# Altium schematic symbol library praline-cache.SchLib: 44 symbols
Pins are listed as number, name and electrical type; pins without a type are passive.

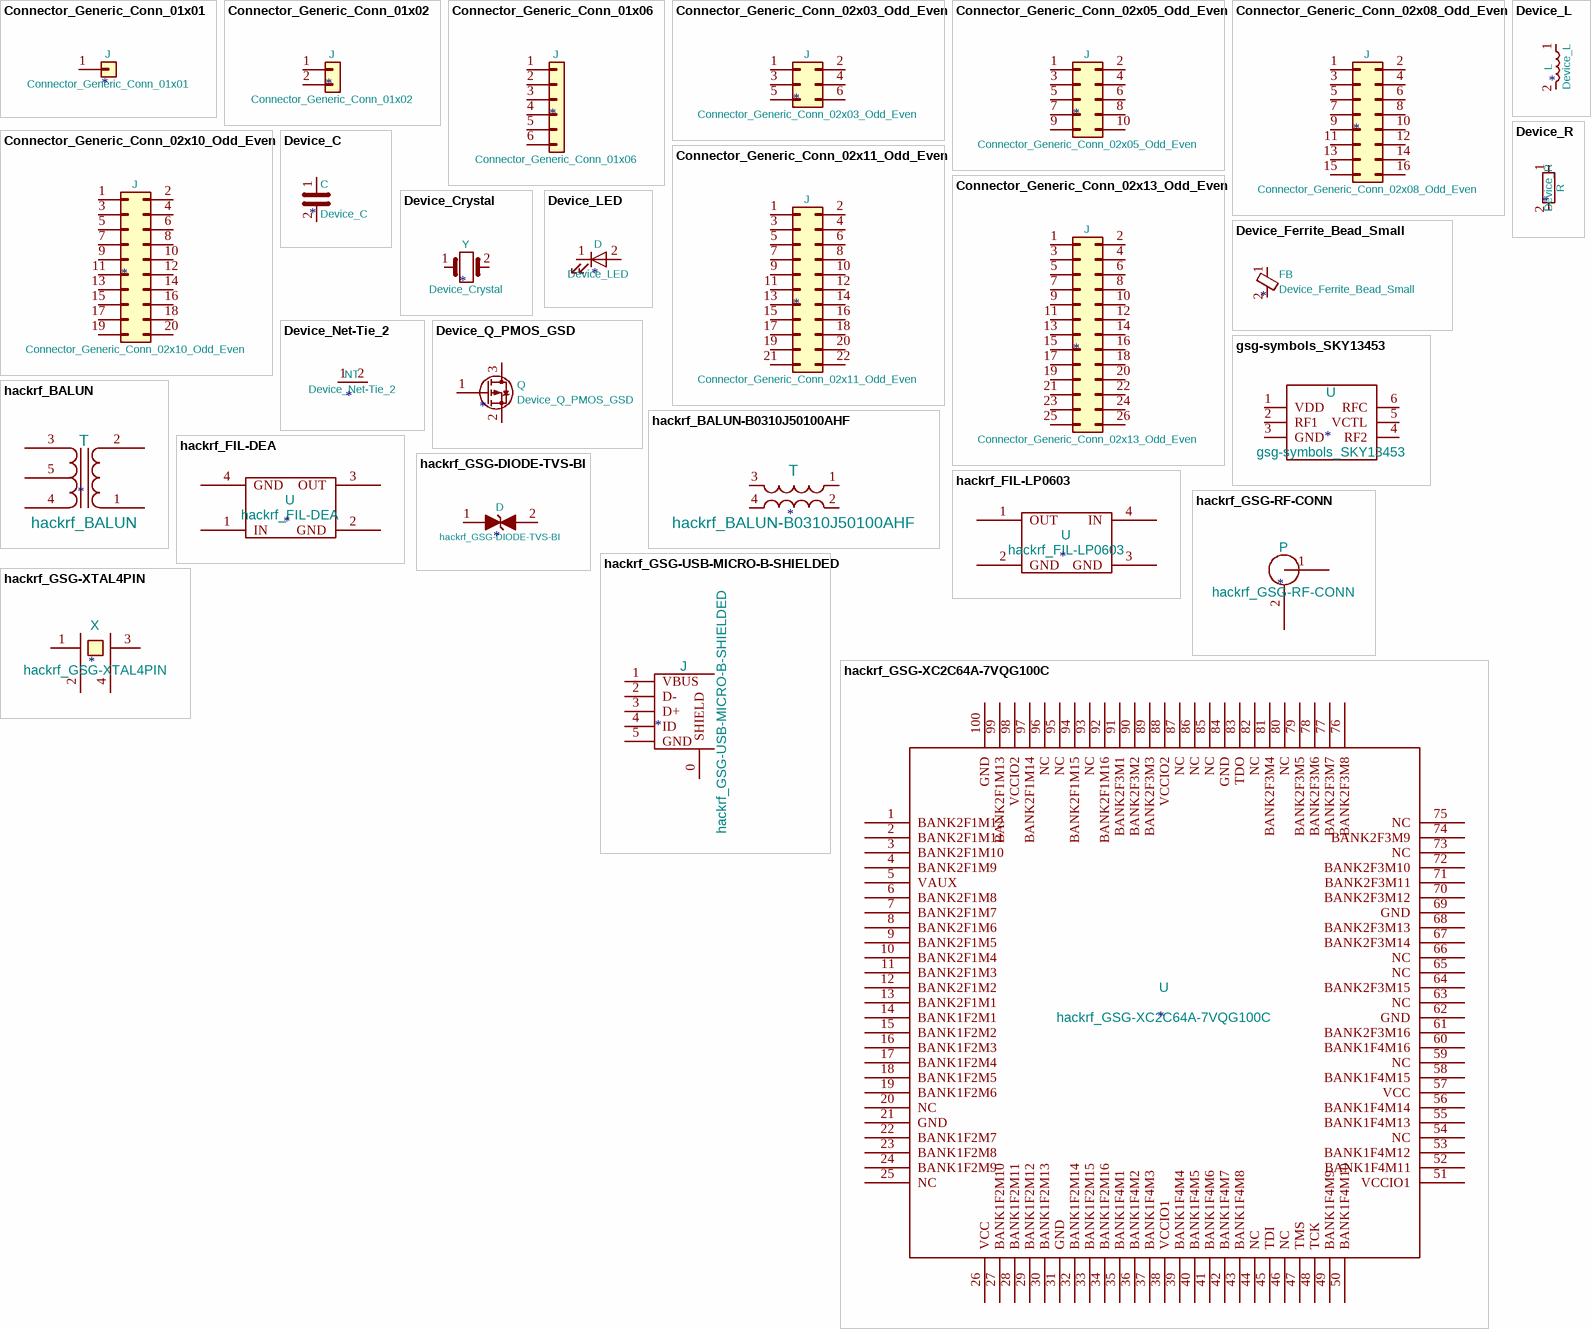
[diagram p0: symbols Connector_Generic_Conn_01x01 to hackrf_GSG-XTAL4PIN]

## Connector_Generic_Conn_01x01
designator J  value Connector_Generic_Conn_01x01
pins: 1 Pin_1

## Connector_Generic_Conn_01x02
designator J  value Connector_Generic_Conn_01x02
pins: 1 Pin_1, 2 Pin_2

## Connector_Generic_Conn_01x06
designator J  value Connector_Generic_Conn_01x06
pins: 1 Pin_1, 2 Pin_2, 3 Pin_3, 4 Pin_4, 5 Pin_5, 6 Pin_6

## Connector_Generic_Conn_02x03_Odd_Even
designator J  value Connector_Generic_Conn_02x03_Odd_Even
pins: 1 Pin_1, 2 Pin_2, 3 Pin_3, 4 Pin_4, 5 Pin_5, 6 Pin_6

## Connector_Generic_Conn_02x05_Odd_Even
designator J  value Connector_Generic_Conn_02x05_Odd_Even
pins: 1 Pin_1, 2 Pin_2, 3 Pin_3, 4 Pin_4, 5 Pin_5, 6 Pin_6, 7 Pin_7, 8 Pin_8, 9 Pin_9, 10 Pin_10

## Connector_Generic_Conn_02x08_Odd_Even
designator J  value Connector_Generic_Conn_02x08_Odd_Even
pins: 1 Pin_1, 2 Pin_2, 3 Pin_3, 4 Pin_4, 5 Pin_5, 6 Pin_6, 7 Pin_7, 8 Pin_8, 9 Pin_9, 10 Pin_10, 11 Pin_11, 12 Pin_12, 13 Pin_13, 14 Pin_14, 15 Pin_15, 16 Pin_16

## Connector_Generic_Conn_02x10_Odd_Even
designator J  value Connector_Generic_Conn_02x10_Odd_Even
pins: 1 Pin_1, 2 Pin_2, 3 Pin_3, 4 Pin_4, 5 Pin_5, 6 Pin_6, 7 Pin_7, 8 Pin_8, 9 Pin_9, 10 Pin_10, 11 Pin_11, 12 Pin_12, 13 Pin_13, 14 Pin_14, 15 Pin_15, 16 Pin_16, 17 Pin_17, 18 Pin_18, 19 Pin_19, 20 Pin_20

## Connector_Generic_Conn_02x11_Odd_Even
designator J  value Connector_Generic_Conn_02x11_Odd_Even
pins: 1 Pin_1, 2 Pin_2, 3 Pin_3, 4 Pin_4, 5 Pin_5, 6 Pin_6, 7 Pin_7, 8 Pin_8, 9 Pin_9, 10 Pin_10, 11 Pin_11, 12 Pin_12, 13 Pin_13, 14 Pin_14, 15 Pin_15, 16 Pin_16, 17 Pin_17, 18 Pin_18, 19 Pin_19, 20 Pin_20, 21 Pin_21, 22 Pin_22

## Connector_Generic_Conn_02x13_Odd_Even
designator J  value Connector_Generic_Conn_02x13_Odd_Even
pins: 1 Pin_1, 2 Pin_2, 3 Pin_3, 4 Pin_4, 5 Pin_5, 6 Pin_6, 7 Pin_7, 8 Pin_8, 9 Pin_9, 10 Pin_10, 11 Pin_11, 12 Pin_12, 13 Pin_13, 14 Pin_14, 15 Pin_15, 16 Pin_16, 17 Pin_17, 18 Pin_18, 19 Pin_19, 20 Pin_20, 21 Pin_21, 22 Pin_22, 23 Pin_23, 24 Pin_24, 25 Pin_25, 26 Pin_26

## Device_C
designator C  value Device_C
pins: 1, 2

## Device_Crystal
designator Y  value Device_Crystal
pins: 1, 2

## Device_Ferrite_Bead_Small
designator FB  value Device_Ferrite_Bead_Small
pins: 1, 2

## Device_L
designator L  value Device_L
pins: 1, 2

## Device_LED
designator D  value Device_LED
pins: 1 K, 2 A

## Device_Net-Tie_2
designator NT  value Device_Net-Tie_2
pins: 1, 2

## Device_Q_PMOS_GSD
designator Q  value Device_Q_PMOS_GSD
pins: 1 G, 2 S, 3 D

## Device_R
designator R  value Device_R
pins: 1, 2

## gsg-symbols_SKY13453
designator U  value gsg-symbols_SKY13453
pins: 1 VDD, 2 RF1, 3 GND, 4 RF2, 5 VCTL, 6 RFC

## hackrf_BALUN
designator T  value hackrf_BALUN
pins: 1 S1, 2 S2, 3 PR1, 4 PR2, 5 PM

## hackrf_BALUN-B0310J50100AHF
designator T  value hackrf_BALUN-B0310J50100AHF
pins: 1 S1, 2 S2, 3 PR1, 4 PR2

## hackrf_FIL-DEA
designator U  value hackrf_FIL-DEA
pins: 1 IN, 2 GND, 3 OUT, 4 GND

## hackrf_FIL-LP0603
designator U  value hackrf_FIL-LP0603
pins: 1 OUT, 2 GND, 3 GND, 4 IN

## hackrf_GSG-DIODE-TVS-BI
designator D  value hackrf_GSG-DIODE-TVS-BI
pins: 1 A, 2 K

## hackrf_GSG-RF-CONN
designator P  value hackrf_GSG-RF-CONN
pins: 1 RF, 2 GND

## hackrf_GSG-USB-MICRO-B-SHIELDED
designator J  value hackrf_GSG-USB-MICRO-B-SHIELDED
pins: 0 SHIELD, 1 VBUS, 2 D-, 3 D+, 4 ID, 5 GND

## hackrf_GSG-XC2C64A-7VQG100C
designator U  value hackrf_GSG-XC2C64A-7VQG100C
pins: 1 BANK2F1M12, 2 BANK2F1M11, 3 BANK2F1M10, 4 BANK2F1M9, 5 VAUX, 6 BANK2F1M8, 7 BANK2F1M7, 8 BANK2F1M6, 9 BANK2F1M5, 10 BANK2F1M4, 11 BANK2F1M3, 12 BANK2F1M2, 13 BANK2F1M1, 14 BANK1F2M1, 15 BANK1F2M2, 16 BANK1F2M3, 17 BANK1F2M4, 18 BANK1F2M5, 19 BANK1F2M6, 20 NC, 21 GND, 22 BANK1F2M7, 23 BANK1F2M8, 24 BANK1F2M9, 25 NC, 26 VCC, 27 BANK1F2M10, 28 BANK1F2M11, 29 BANK1F2M12, 30 BANK1F2M13, 31 GND, 32 BANK1F2M14, 33 BANK1F2M15, 34 BANK1F2M16, 35 BANK1F4M1, 36 BANK1F4M2, 37 BANK1F4M3, 38 VCCIO1, 39 BANK1F4M4, 40 BANK1F4M5, 41 BANK1F4M6, 42 BANK1F4M7, 43 BANK1F4M8, 44 NC, 45 TDI, 46 NC, 47 TMS, 48 TCK, 49 BANK1F4M9, 50 BANK1F4M10, 51 VCCIO1, 52 BANK1F4M11, 53 BANK1F4M12, 54 NC, 55 BANK1F4M13, 56 BANK1F4M14, 57 VCC, 58 BANK1F4M15, 59 NC, 60 BANK1F4M16, 61 BANK2F3M16, 62 GND, 63 NC, 64 BANK2F3M15, 65 NC, 66 NC, 67 BANK2F3M14, 68 BANK2F3M13, 69 GND, 70 BANK2F3M12, 71 BANK2F3M11, 72 BANK2F3M10, 73 NC, 74 BANK2F3M9, 75 NC, 76 BANK2F3M8, 77 BANK2F3M7, 78 BANK2F3M6, 79 BANK2F3M5, 80 NC, 81 BANK2F3M4, 82 NC, 83 TDO, 84 GND, 85 NC, 86 NC, 87 NC, 88 VCCIO2, 89 BANK2F3M3, 90 BANK2F3M2, 91 BANK2F3M1, 92 BANK2F1M16, 93 NC, 94 BANK2F1M15, 95 NC, 96 NC, 97 BANK2F1M14, 98 VCCIO2, 99 BANK2F1M13, 100 GND

## hackrf_GSG-XTAL4PIN
designator X  value hackrf_GSG-XTAL4PIN
pins: 1, 2, 3, 4

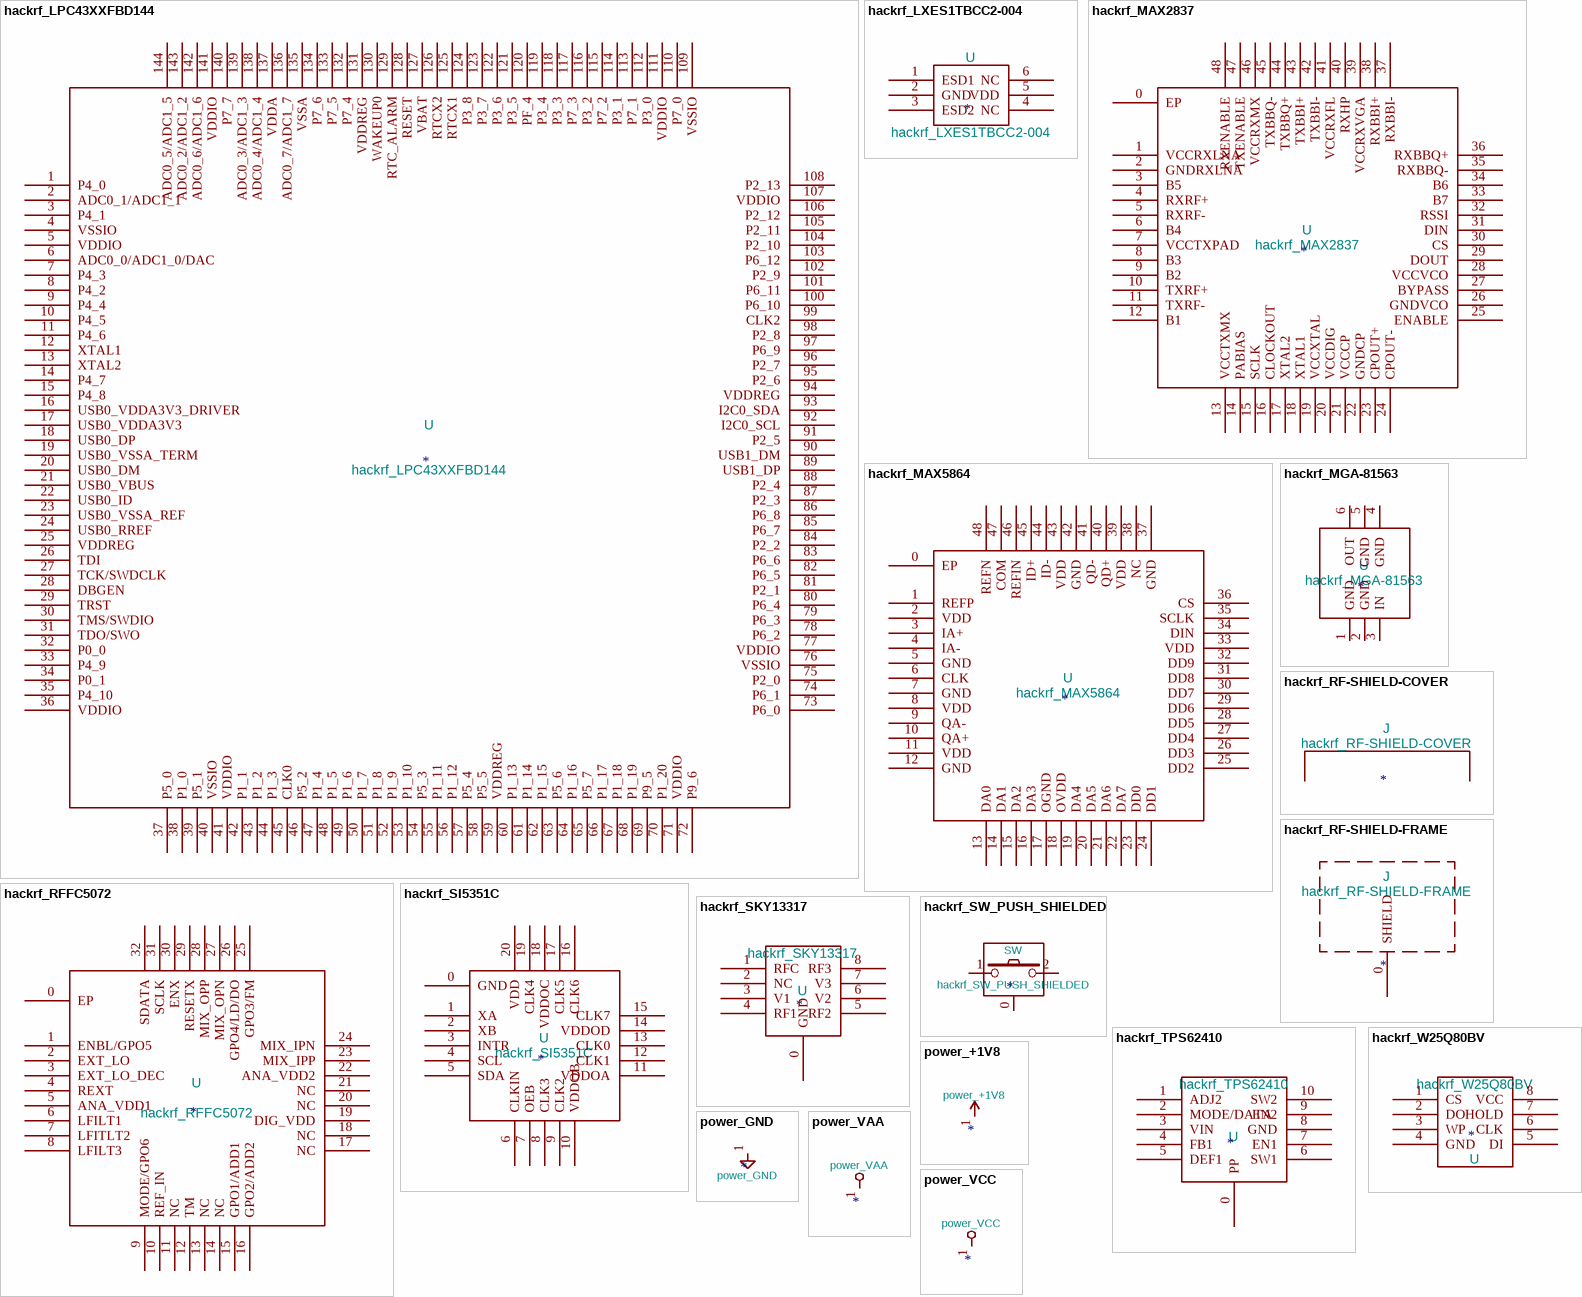
[diagram p1: symbols hackrf_LPC43XXFBD144 to power_VCC]

## hackrf_LPC43XXFBD144
designator U  value hackrf_LPC43XXFBD144
pins: 1 P4_0, 2 ADC0_1/ADC1_1, 3 P4_1, 4 VSSIO, 5 VDDIO, 6 ADC0_0/ADC1_0/DAC, 7 P4_3, 8 P4_2, 9 P4_4, 10 P4_5, 11 P4_6, 12 XTAL1, 13 XTAL2, 14 P4_7, 15 P4_8, 16 USB0_VDDA3V3_DRIVER, 17 USB0_VDDA3V3, 18 USB0_DP, 19 USB0_VSSA_TERM, 20 USB0_DM, 21 USB0_VBUS, 22 USB0_ID, 23 USB0_VSSA_REF, 24 USB0_RREF, 25 VDDREG, 26 TDI, 27 TCK/SWDCLK, 28 DBGEN, 29 TRST, 30 TMS/SWDIO, 31 TDO/SWO, 32 P0_0, 33 P4_9, 34 P0_1, 35 P4_10, 36 VDDIO, 37 P5_0, 38 P1_0, 39 P5_1, 40 VSSIO, 41 VDDIO, 42 P1_1, 43 P1_2, 44 P1_3, 45 CLK0, 46 P5_2, 47 P1_4, 48 P1_5, 49 P1_6, 50 P1_7, 51 P1_8, 52 P1_9, 53 P1_10, 54 P5_3, 55 P1_11, 56 P1_12, 57 P5_4, 58 P5_5, 59 VDDREG, 60 P1_13, 61 P1_14, 62 P1_15, 63 P5_6, 64 P1_16, 65 P5_7, 66 P1_17, 67 P1_18, 68 P1_19, 69 P9_5, 70 P1_20, 71 VDDIO, 72 P9_6, 73 P6_0, 74 P6_1, 75 P2_0, 76 VSSIO, 77 VDDIO, 78 P6_2, 79 P6_3, 80 P6_4, 81 P2_1, 82 P6_5, 83 P6_6, 84 P2_2, 85 P6_7, 86 P6_8, 87 P2_3, 88 P2_4, 89 USB1_DP, 90 USB1_DM, 91 P2_5, 92 I2C0_SCL, 93 I2C0_SDA, 94 VDDREG, 95 P2_6, 96 P2_7, 97 P6_9, 98 P2_8, 99 CLK2, 100 P6_10, 101 P6_11, 102 P2_9, 103 P6_12, 104 P2_10, 105 P2_11, 106 P2_12, 107 VDDIO, 108 P2_13, 109 VSSIO, 110 P7_0, 111 VDDIO, 112 P3_0, 113 P7_1, 114 P3_1, 115 P7_2, 116 P3_2, 117 P7_3, 118 P3_3, 119 P3_4, 120 PF_4, 121 P3_5, 122 P3_6, 123 P3_7, 124 P3_8, 125 RTCX1, 126 RTCX2, 127 VBAT, 128 RESET, 129 RTC_ALARM, 130 WAKEUP0, 131 VDDREG, 132 P7_4, 133 P7_5, 134 P7_6, 135 VSSA, 136 ADC0_7/ADC1_7, 137 VDDA, 138 ADC0_4/ADC1_4, 139 ADC0_3/ADC1_3, 140 P7_7, 141 VDDIO, 142 ADC0_6/ADC1_6, 143 ADC0_2/ADC1_2, 144 ADC0_5/ADC1_5

## hackrf_LXES1TBCC2-004
designator U  value hackrf_LXES1TBCC2-004
pins: 1 ESD1, 2 GND, 3 ESD2, 4 NC, 5 VDD, 6 NC

## hackrf_MAX2837
designator U  value hackrf_MAX2837
pins: 0 EP, 1 VCCRXLNA, 2 GNDRXLNA, 3 B5, 4 RXRF+, 5 RXRF-, 6 B4, 7 VCCTXPAD, 8 B3, 9 B2, 10 TXRF+, 11 TXRF-, 12 B1, 13 VCCTXMX, 14 PABIAS, 15 SCLK, 16 CLOCKOUT, 17 XTAL2, 18 XTAL1, 19 VCCXTAL, 20 VCCDIG, 21 VCCCP, 22 GNDCP, 23 CPOUT+, 24 CPOUT-, 25 ENABLE, 26 GNDVCO, 27 BYPASS, 28 VCCVCO, 29 DOUT, 30 CS, 31 DIN, 32 RSSI, 33 B7, 34 B6, 35 RXBBQ-, 36 RXBBQ+, 37 RXBBI-, 38 RXBBI+, 39 VCCRXVGA, 40 RXHP, 41 VCCRXFL, 42 TXBBI-, 43 TXBBI+, 44 TXBBQ+, 45 TXBBQ-, 46 VCCRXMX, 47 TXENABLE, 48 RXENABLE

## hackrf_MAX5864
designator U  value hackrf_MAX5864
pins: 0 EP, 1 REFP, 2 VDD, 3 IA+, 4 IA-, 5 GND, 6 CLK, 7 GND, 8 VDD, 9 QA-, 10 QA+, 11 VDD, 12 GND, 13 DA0, 14 DA1, 15 DA2, 16 DA3, 17 OGND, 18 OVDD, 19 DA4, 20 DA5, 21 DA6, 22 DA7, 23 DD0, 24 DD1, 25 DD2, 26 DD3, 27 DD4, 28 DD5, 29 DD6, 30 DD7, 31 DD8, 32 DD9, 33 VDD, 34 DIN, 35 SCLK, 36 CS, 37 GND, 38 NC, 39 VDD, 40 QD+, 41 QD-, 42 GND, 43 VDD, 44 ID-, 45 ID+, 46 REFIN, 47 COM, 48 REFN

## hackrf_MGA-81563
designator U  value hackrf_MGA-81563
pins: 1 GND, 2 GND, 3 IN, 4 GND, 5 GND, 6 OUT

## hackrf_RF-SHIELD-COVER
designator J  value hackrf_RF-SHIELD-COVER

## hackrf_RF-SHIELD-FRAME
designator J  value hackrf_RF-SHIELD-FRAME
pins: 0 SHIELD

## hackrf_RFFC5072
designator U  value hackrf_RFFC5072
pins: 0 EP, 1 ENBL/GPO5, 2 EXT_LO, 3 EXT_LO_DEC, 4 REXT, 5 ANA_VDD1, 6 LFILT1, 7 LFITLT2, 8 LFILT3, 9 MODE/GPO6, 10 REF_IN, 11 NC, 12 TM, 13 NC, 14 NC, 15 GPO1/ADD1, 16 GPO2/ADD2, 17 NC, 18 NC, 19 DIG_VDD, 20 NC, 21 NC, 22 ANA_VDD2, 23 MIX_IPP, 24 MIX_IPN, 25 GPO3/FM, 26 GPO4/LD/DO, 27 MIX_OPN, 28 MIX_OPP, 29 RESETX, 30 ENX, 31 SCLK, 32 SDATA

## hackrf_SI5351C
designator U  value hackrf_SI5351C
pins: 0 GND, 1 XA, 2 XB, 3 INTR, 4 SCL, 5 SDA, 6 CLKIN, 7 OEB, 8 CLK3, 9 CLK2, 10 VDDOB, 11 VDDOA, 12 CLK1, 13 CLK0, 14 VDDOD, 15 CLK7, 16 CLK6, 17 CLK5, 18 VDDOC, 19 CLK4, 20 VDD

## hackrf_SKY13317
designator U  value hackrf_SKY13317
pins: 0 GND, 1 RFC, 2 NC, 3 V1, 4 RF1, 5 RF2, 6 V2, 7 V3, 8 RF3

## hackrf_SW_PUSH_SHIELDED
designator SW  value hackrf_SW_PUSH_SHIELDED
pins: 0 SHIELD, 1, 2

## hackrf_TPS62410
designator U  value hackrf_TPS62410
pins: 0 PP, 1 ADJ2, 2 MODE/DATA, 3 VIN, 4 FB1, 5 DEF1, 6 SW1, 7 EN1, 8 GND, 9 EN2, 10 SW2

## hackrf_W25Q80BV
designator U  value hackrf_W25Q80BV
pins: 1 CS, 2 DO, 3 WP, 4 GND, 5 DI, 6 CLK, 7 HOLD, 8 VCC

## power_+1V8
designator #PWR  value power_+1V8
pins: 1 +1V8

## power_GND
designator #PWR  value power_GND
pins: 1 GND

## power_VAA
designator #PWR  value power_VAA
pins: 1 VAA

## power_VCC
designator #PWR  value power_VCC
pins: 1 VCC